# Altium footprint library Relay.PcbLib: 4 footprints
Each footprint in its own frame and in the unit in brackets; x right, y up, seen from the top. Pads: shape width x height; smd on the part's side, far side on the other; paste and mask are expansions set on the pad; w line width, h text height; cw(c..) or ccw(c..) is an arc to the next point about the centre after c.
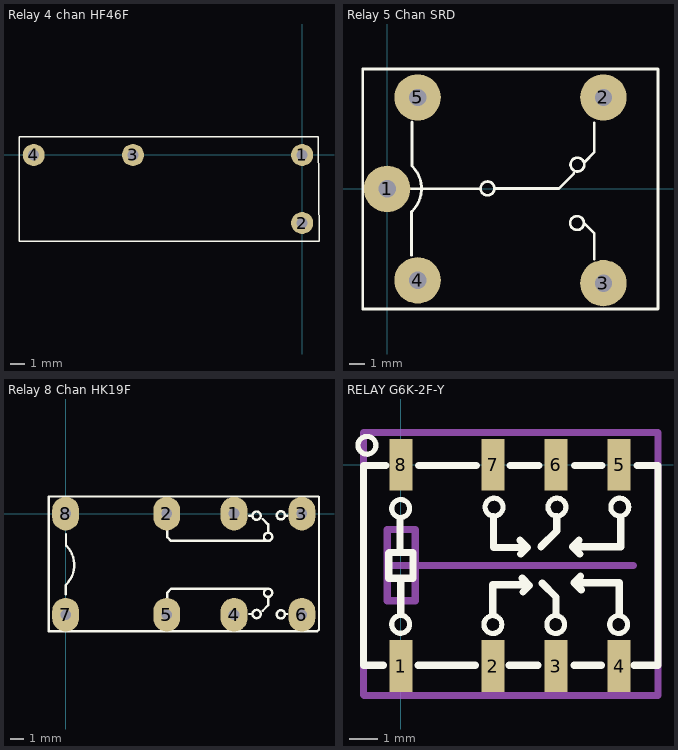
[diagram p0: the footprints below, top view; thin cyan lines are the x and y axes]

## Relay 4 chan HF46F [mil]
pads (4):
  round 60 hole 30: 1(0,0) 2(0,-185.04) 3(-460,0) 4(-730,0)
Top Overlay:
  lines w3.94: -770,-235 45.78,-235 44.39,50 -770,50 -770,-235
3D body "User Library-Relay-HF46F-G 5-HS1.STEP": height 154.48, standoff -582.23, extent -763.15,-227.99 40,47.99

## Relay 5 Chan SRD [mil] "Relay SPDT, 5 pin, 10A,W 650mil, L 800mil, H 800mil"
height 800
pads (5):
  round 120 hole 45: 1(0,0) 2(559.06,236.22) 3(559.06,-243.78) 4(78.74,-236.22) 5(78.74,236.22)
Top Overlay:
  circle w7: c491.79,62.82 r17.8
  circle w7: c490.79,-88.18 r17.8
  circle w7: c259.42,1.12 r17.8
  lines w7: 34.97,0.12 239.22,0.12 ; 63.22,-171.88 63.22,-58.88 ; 64.22,-57.88 ccw(c6.72,0.62) 65.22,58.12 ; 64.22,59.12 64.22,173.12 ; 279.22,1.12 443.6,1.12 ; 443.6,1.02 482.6,40.02 ; 508.6,-88.18 535.6,-115.18 535.6,-181.18 ; 509.6,68.82 535.6,94.82 535.6,170.82 ; -63.4,-310.6 700,-310.6 700,310 -63.4,310 -63.4,-310.6
  lines w10: 553.61,232.5 557.91,236.8
3D body "User Library-SONGLE Relay SRU-12VDC-SL-C.STEP": height 602.36, standoff -196.85, extent -55.1,-305.92 696.87,304.32

## Relay 8 Chan HK19F [mil] "Reley DPDT, 8 pin, 1A, W400mil, L800mil,H 300mil"
height 300
pads (8):
  oval 80x100 hole 32: 1(500,0) 2(300,0) 3(701,0) 4(500,-300) 5(300,-300) 6(701,-300) 7(0,-300) 8(0,0)
Top Overlay:
  circle w7: c638.76,-5 r12.24
  circle w7: c566.76,-6 r12.24
  circle w7: c600.76,-69 r12.24
  circle w7: c600.76,-235 r12.24
  circle w7: c566.76,-298 r12.24
  circle w7: c638.76,-299 r12.24
  lines w7: 0,-239 0,-212 ; 1,-211 ccw(c-56.5,-152.5) 2,-95 ; 1,-94 1,-61 ; 302,-255 302,-234 313,-223 599,-223 ; 302,-42 302,-70 313,-81 599,-81 ; 544,-298 552,-298 ; 544,-6 552,-6 ; 585,-288 601,-272 601,-249 ; 585,-16 601,-32 601,-55 ; 653,-298 658,-298 ; 653,-6 658,-6 ; -50,-349 747,-349 752,-344 752,49 750,51 -50,51 -50,-349
3D body "SW3dPS-DSY2Y.STEP": height 484.25, standoff -118.11, extent -59.45,-340 759.45,45.83

## RELAY G6K-2F-Y [mm] "Reley DPDT, 8 pin, 1A, W400mil, L800mil,H 300mil"
height 7.62
pads (8):
  rect 0.8x1.8 smd: 1(0,-7) 2(3.2,-7) 3(5.4,-7) 4(7.6,-7) 5(7.6,0) 6(5.4,0) 7(3.2,0) 8(0,0)
Top Overlay:
  circle w0.178: c-0.004,-5.55 r0.311
  circle w0.178: c-0.004,-1.519 r0.311
  circle w0.178: c3.246,-1.469 r0.311
  circle w0.178: c5.433,-1.469 r0.311
  circle w0.178: c7.621,-1.469 r0.311
  circle w0.178: c3.204,-5.556 r0.311
  circle w0.178: c5.392,-5.556 r0.311
  circle w0.178: c7.579,-5.556 r0.311
  circle w0.178: c-1.179,0.681 r0.311
  lines w0.254: -0.6,-6.975 -1.3,-6.975 -1.3,-0.025 -0.525,-0.025 ; -0.025,-2.975 -0.025,-1.9 ; 0,-5.2 0,-4.025 ; 0.6,-6.975 2.6,-6.975 ; 0.625,-0.025 2.625,-0.025 ; 3.2,-5.2 3.2,-4.175 4.25,-4.175 ; 3.225,-1.8 3.225,-2.875 4.275,-2.875 ; 3.775,-6.975 4.775,-6.975 ; 3.8,-0.025 4.8,-0.025 ; 4.15,-2.625 4.4,-2.875 4.175,-3.1 ; 4.225,-3.95 4.475,-4.2 4.25,-4.425 ; 4.875,-2.85 5.425,-2.3 5.425,-1.8 ; 4.925,-4.125 5.4,-4.6 5.4,-5.2 ; 6.025,-6.975 6.975,-6.975 ; 6.05,-0.025 7,-0.025 ; 6.1,-2.85 7.65,-2.85 7.65,-1.85 ; 6.15,-4.1 7.6,-4.1 7.6,-5.175 ; 6.2,-2.625 5.975,-2.85 6.225,-3.1 ; 6.25,-3.875 6.025,-4.1 6.275,-4.35 ; 8.125,-6.975 8.95,-6.975 8.95,-0.025 8.225,-0.025 ; -0.425,-3.95 -0.425,-3.075 -0.4,-3.05 0.425,-3.05 0.425,-3.95 -0.425,-3.95
Mechanical 1:
  lines w0.254: -0.45,-3.5 8.1,-3.5
Mechanical 13:
  lines w0.254: -1.3,-8 -1.3,1.125 8.95,1.125 8.95,-8.025 -1.275,-8.025 -1.3,-8 ; -0.475,-4.725 0.5,-4.725 0.5,-2.25 -0.475,-2.25 -0.475,-4.725
3D body "G6K-2F-Y 5 VDC.stp": height 5.2, standoff 0, extent -1.175,-7.4 8.825,0.4